# Altium footprint library WLCSP6_1X1.5.PcbLib: 1 footprints
Each footprint in its own frame and in the unit in brackets; x right, y up, seen from the top. Pads: shape width x height; smd on the part's side, far side on the other; paste and mask are expansions set on the pad; w line width, h text height; cw(c..) or ccw(c..) is an arc to the next point about the centre after c.
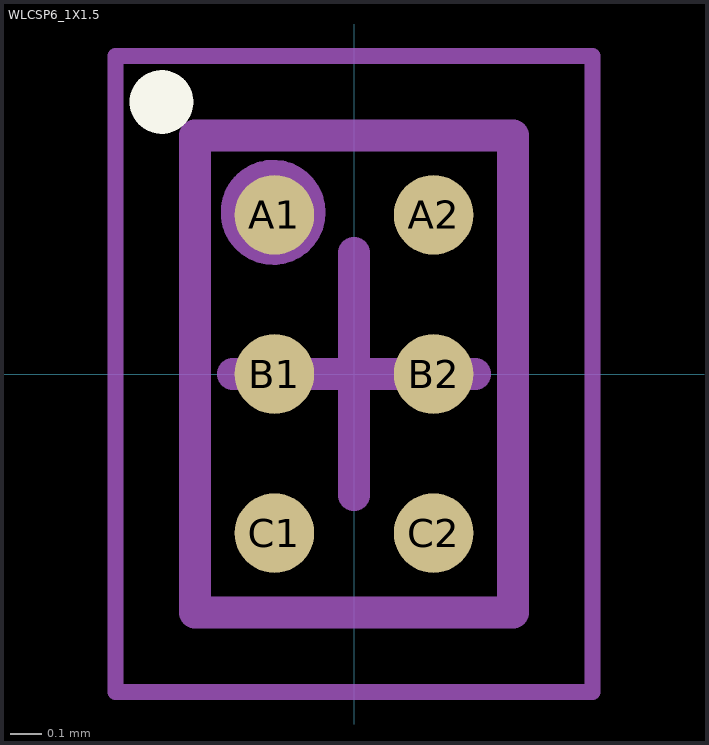
[diagram p0: the footprint, top view; thin cyan lines are the x and y axes]

## WLCSP6_1X1.5 [mm]
height 0.63
pads (6):
  round 0.25 smd: A1(-0.25,0.5) A2(0.25,0.5) B1(-0.25,0) B2(0.25,0) C1(-0.25,-0.5) C2(0.25,-0.5)
Top Overlay:
  circle w0.1: c-0.605,0.855 r0.05
Top Assembly:
  circle w0.076: c-0.254,0.508 r0.127
  lines w0.1: -0.5,-0.75 -0.5,0.75 0.5,0.75 0.5,-0.75 -0.5,-0.75
Top Courtyard:
  lines w0.05: -0.75,-1 -0.75,1 0.75,1 0.75,-1 -0.75,-1
  lines w0.1: -0.381,0 0.381,0 ; 0,-0.381 0,0.381
3D body "BGA100P9X9-81A.step": height 0.63, standoff 0, extent -0.5,-0.75 0.5,0.75